# Altium footprint library OLED_PCB_Project.PcbLib: 6 footprints
Each footprint in its own frame and in the unit in brackets; x right, y up, seen from the top. Pads: shape width x height; smd on the part's side, far side on the other; paste and mask are expansions set on the pad; w line width, h text height; cw(c..) or ccw(c..) is an arc to the next point about the centre after c.
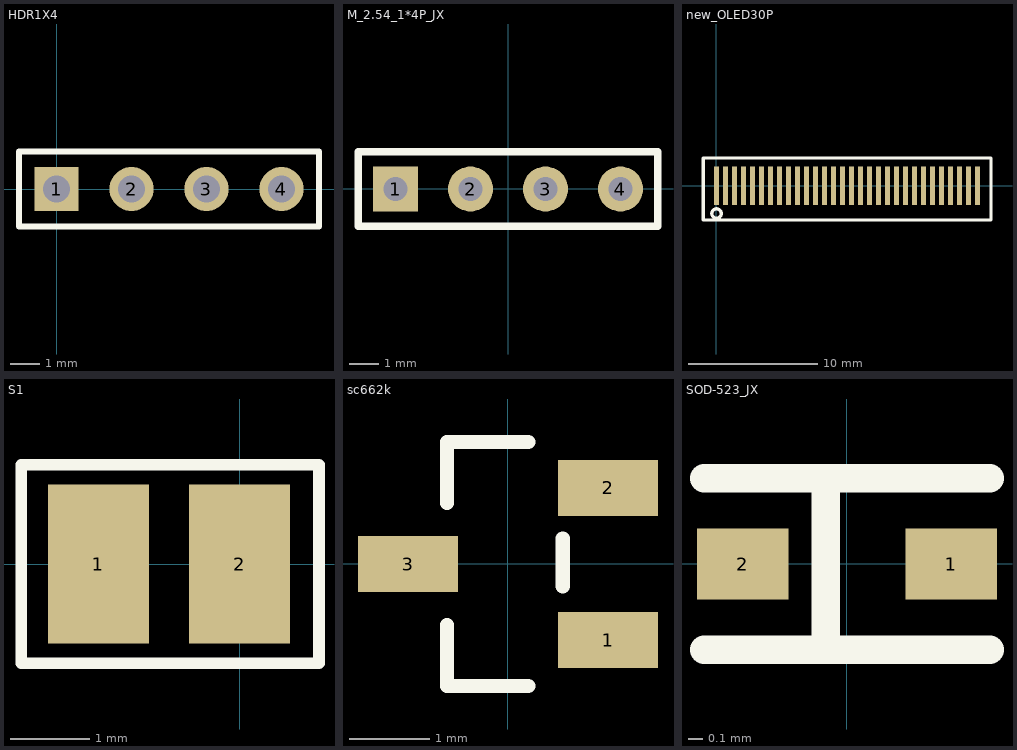
[diagram p0: the footprints below, top view; thin cyan lines are the x and y axes]

## HDR1X4 [mm] "Connector; Header; 4 Position"
pads (4):
  rect 1.5x1.5 hole 0.9: 1(0,0)
  round 1.5 hole 0.9: 2(2.54,0) 3(5.08,0) 4(7.62,0)
Top Overlay:
  lines w0.2: -1.27,-1.27 -1.27,1.27 8.89,1.27 8.89,-1.27 -1.27,-1.27

## M_2.54_1*4P_JX [mm]
pads (4):
  rect 1.52x1.52 hole 0.81: 1(-3.81,0)
  round 1.52 hole 0.81: 2(-1.27,0) 3(1.27,0) 4(3.81,0)
Top Overlay:
  lines w0.254: -5.08,-1.27 5.08,-1.27 5.08,1.27 -5.08,1.27 -5.08,-1.27

## new_OLED30P [mm]
pads (30):
  rect 0.39x3 smd: 1(0,0) 2(0.7,0) 3(1.4,0) 4(2.1,0) 5(2.8,0) 6(3.5,0) 7(4.2,0) 8(4.9,0) 9(5.6,0) 10(6.3,0) 11(7,0) 12(7.7,0) 13(8.4,0) 14(9.1,0) 15(9.8,0) 16(10.5,0) 17(11.2,0) 18(11.9,0) 19(12.6,0) 20(13.3,0) 21(14,0) 22(14.7,0) 23(15.4,0) 24(16.1,0) 25(16.8,0) 26(17.5,0) 27(18.2,0) 28(18.9,0) 29(19.6,0) 30(20.3,0)
Top Overlay:
  circle w0.254: c0.016,-2.159 r0.365
  lines w0.254: -1.016,-2.667 21.336,-2.667 21.336,2.159 -1.016,2.159 -1.016,-2.667

## S1 [mm]
pads (2):
  rect 1.27x2 smd: 1(-1.778,0) 2(0,0)
Top Overlay:
  lines w0.15: -2.75,-1.25 -2.75,1.25 1,1.25 1,-1.25 -2.75,-1.25

## sc662k [mm]
pads (3):
  rect 1.25x0.7 smd: 1(1.25,-0.95) 2(1.25,0.95) 3(-1.25,0)
Top Overlay:
  lines w0.178: -0.762,-0.762 -0.762,-1.524 0.254,-1.524 ; -0.762,0.762 -0.762,1.524 0.254,1.524 ; 0.686,-0.279 0.686,0.32

## SOD-523_JX [mm]
pads (2):
  rect 0.64x0.5 smd: 1(0.73,0) 2(-0.73,0)
Top Overlay:
  lines w0.2: -1,-0.6 1,-0.6 ; -1,0.6 1,0.6 ; -0.15,-0.6 -0.15,0.6